# Altium schematic symbol library TPS70933DBVT.SchLib: 1 symbol
Pins are listed as number, name and electrical type; pins without a type are passive.

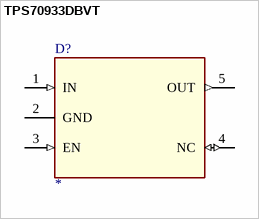
[diagram p0: symbol TPS70933DBVT]

## TPS70933DBVT
designator D?
150-mA, 30-V, ultra-low-IQ, low-dropout voltage regulator with reverse current protection and enable; MF: Texas Instruments; MP: TPS70933DBVT; SnapEDA_Link: https://www.snapeda.com/parts/TPS70933DBVT/Texas+Instruments/view-part/?ref=snap; Package: SOT-23-5 Texas Instruments; Value: *; Check_prices: https://www.snapeda.com/parts/TPS70933DBVT/Texas+Instruments/view-part/?ref=eda
footprint SOT95P280X145-5N
pins: 1 IN (in), 2 GND (power), 3 EN (in), 4 NC (io), 5 OUT (out)